# Altium schematic symbol library 74VHC125.Schlib: 1 symbol
Pins are listed as number, name and electrical type; pins without a type are passive.

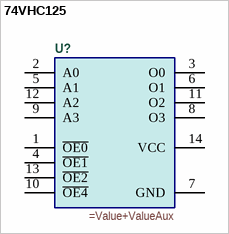
[diagram p0: symbol 74VHC125]

## 74VHC125
designator U?
=Description
pins: 1 ~{OE0}, 2 A0, 3 O0, 4 ~{OE1}, 5 A1, 6 O1, 7 GND, 8 O3, 9 A3, 10 ~{OE4}, 11 O2, 12 A2, 13 ~{OE2}, 14 VCC